# Altium footprint library PcbLib1.PcbLib: 4 footprints
Each footprint in its own frame and in the unit in brackets; x right, y up, seen from the top. Pads: shape width x height; smd on the part's side, far side on the other; paste and mask are expansions set on the pad; w line width, h text height; cw(c..) or ccw(c..) is an arc to the next point about the centre after c.
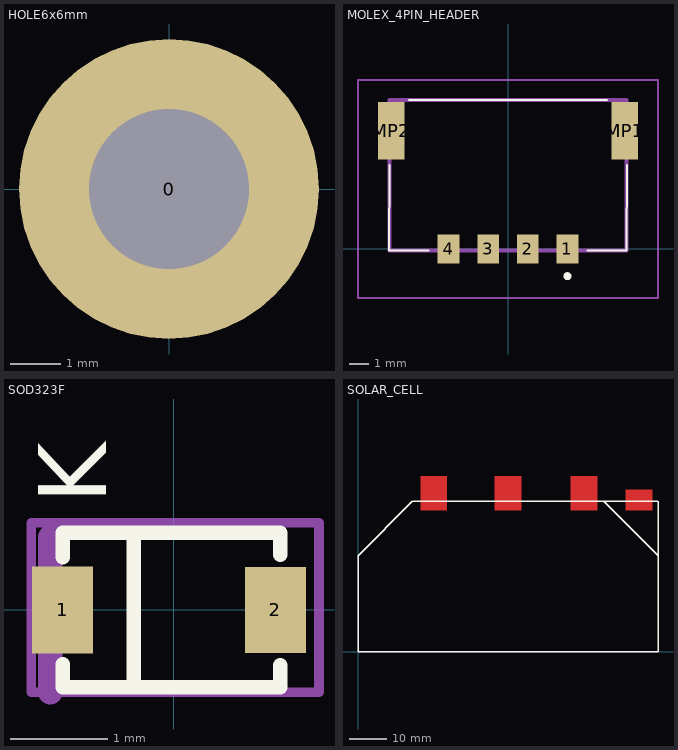
[diagram p0: the footprints below, top view; thin cyan lines are the x and y axes]

## HOLE6x6mm [mm]
pads (1):
  round 6 hole 3.2: 0(0,0)

## MOLEX_4PIN_HEADER [mm] "PDM number 205338-0004"
pads (6):
  rect 1.1x1.45 smd: 1(3,0) 2(1,0) 3(-1,0) 4(-3,0)
  rect 1.35x2.9 smd: MP1(5.895,5.975) MP2(-5.895,5.975)
Top Overlay:
  lines w0.1: -6,-0.075 -5.975,4.225 ; -5.975,-0.075 -4,-0.075 ; -5,7.525 5,7.525 ; 4,-0.075 5.975,-0.075 6,4.225
  lines w0.2: 3,-1.475 cw(c3,-1.375) 3,-1.275 cw(c3,-1.375) 3,-1.475
Mechanical 13:
  lines w0.2: -5.975,-0.075 5.975,-0.075 5.975,7.525 -5.975,7.525 -5.975,-0.075
Mechanical 15:
  lines w0.1: -7.57,-2.475 7.57,-2.475 7.57,8.525 -7.57,8.525 -7.57,-2.475
3D body "205338-0004.stp": height 2.6, standoff 0, extent -6.375,-0.95 6.375,7

## SOD323F [mm] "Diode SMD22WS-TP"
pads (2):
  rect 0.63x0.9 smd mask+0.05: 1(-1.15,0)
  rect 0.63x0.89 smd mask+0.05: 2(1.05,0)
Top Overlay:
  lines w0.15: -1.15,-0.8 1.1,-0.8 1.1,-0.571 ; -1.15,-0.79 -1.15,-0.562 ; -1.15,0.546 -1.15,0.775 ; -1.15,0.8 1.1,0.8 1.1,0.571 ; -0.413,-0.8 -0.413,0.8
  text "K" at -0.7,1.1 h0.7
Mechanical 15:
  lines w0.1: -1.475,-0.85 -1.475,0.9 1.5,0.9 1.5,-0.85 -1.475,-0.85
  lines w0.254: -1.275,-0.85 -1.275,0.75
  text ".Designator" at -1.125,-0.2 h0.89
3D body "User Library-SOD323F.STEP": height 0.75, standoff -0.01, extent -1.451,-0.675 1.349,0.675

## SOLAR_CELL [mm]
pads (4):
  round 0.025 smd: 1(75.1,40.55) 2(60.4,42.3) 3(40.1,42.3) 4(20.2,42.3)
Top Layer:
  region: 71.6,37.8 71.6,43.3 78.6,43.3 78.6,37.8
  region: 56.9,37.8 56.9,46.8 63.9,46.8 63.9,37.8
  region: 36.6,37.8 36.6,46.8 43.6,46.8 43.6,37.8
  region: 16.7,37.8 16.7,46.8 23.7,46.8 23.7,37.8
Top Overlay:
  lines w0.4: 14.5,40.1 0,25.6 0,0 80.15,0 ; 14.564,40.164 65.656,40.164 ; 80.1,40.16 65.656,40.16 80.156,25.66 ; 80.156,0.006 80.156,25.66 ; 80.156,40.16 80.156,25.66
Top Solder:
  region: 0,0 0,25.6 14.549,40.149 14.549,40.161 80.039,40.161 80.1,40.1 80.1,0 80,0 79.9,0.1